# Altium schematic symbol library GPSReceiver_Skyworks_SE4110L.SchLib: 1 symbol
Pins are listed as number, name and electrical type; pins without a type are passive.

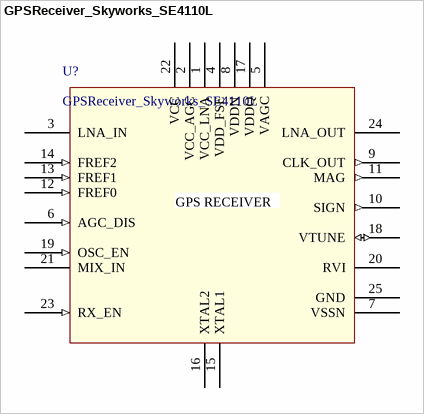
[diagram p0: symbol GPSReceiver_Skyworks_SE4110L]

## GPSReceiver_Skyworks_SE4110L
designator U?
High sensitivity / low power GPS and A-GPS,10 mA operating current with 2.7-3.3 V supply
pins: 1 VCC_LNA (power), 2 VCC_AGC (power), 3 LNA_IN, 4 VDD_FSE, 5 VAGC, 6 AGC_DIS (in), 7 VSSN (power), 8 VDDN (power), 9 CLK_OUT (out), 10 SIGN (out), 11 MAG (out), 12 FREF0 (in), 13 FREF1 (in), 14 FREF2 (in), 15 XTAL1, 16 XTAL2, 17 VDDQ (power), 18 VTUNE (io), 19 OSC_EN (in), 20 RVI, 21 MIX_IN, 22 VCC (power), 23 RX_EN (in), 24 LNA_OUT, 25 GND (power)
text: GPS RECEIVER